# Altium footprint library Vishay Sprague Footprints.PcbLib: 143 footprints (part 7 of 9)
Each footprint in its own frame and in the unit in brackets; x right, y up, seen from the top. Pads: shape width x height; smd on the part's side, far side on the other; paste and mask are expansions set on the pad; w line width, h text height; cw(c..) or ccw(c..) is an arc to the next point about the centre after c.
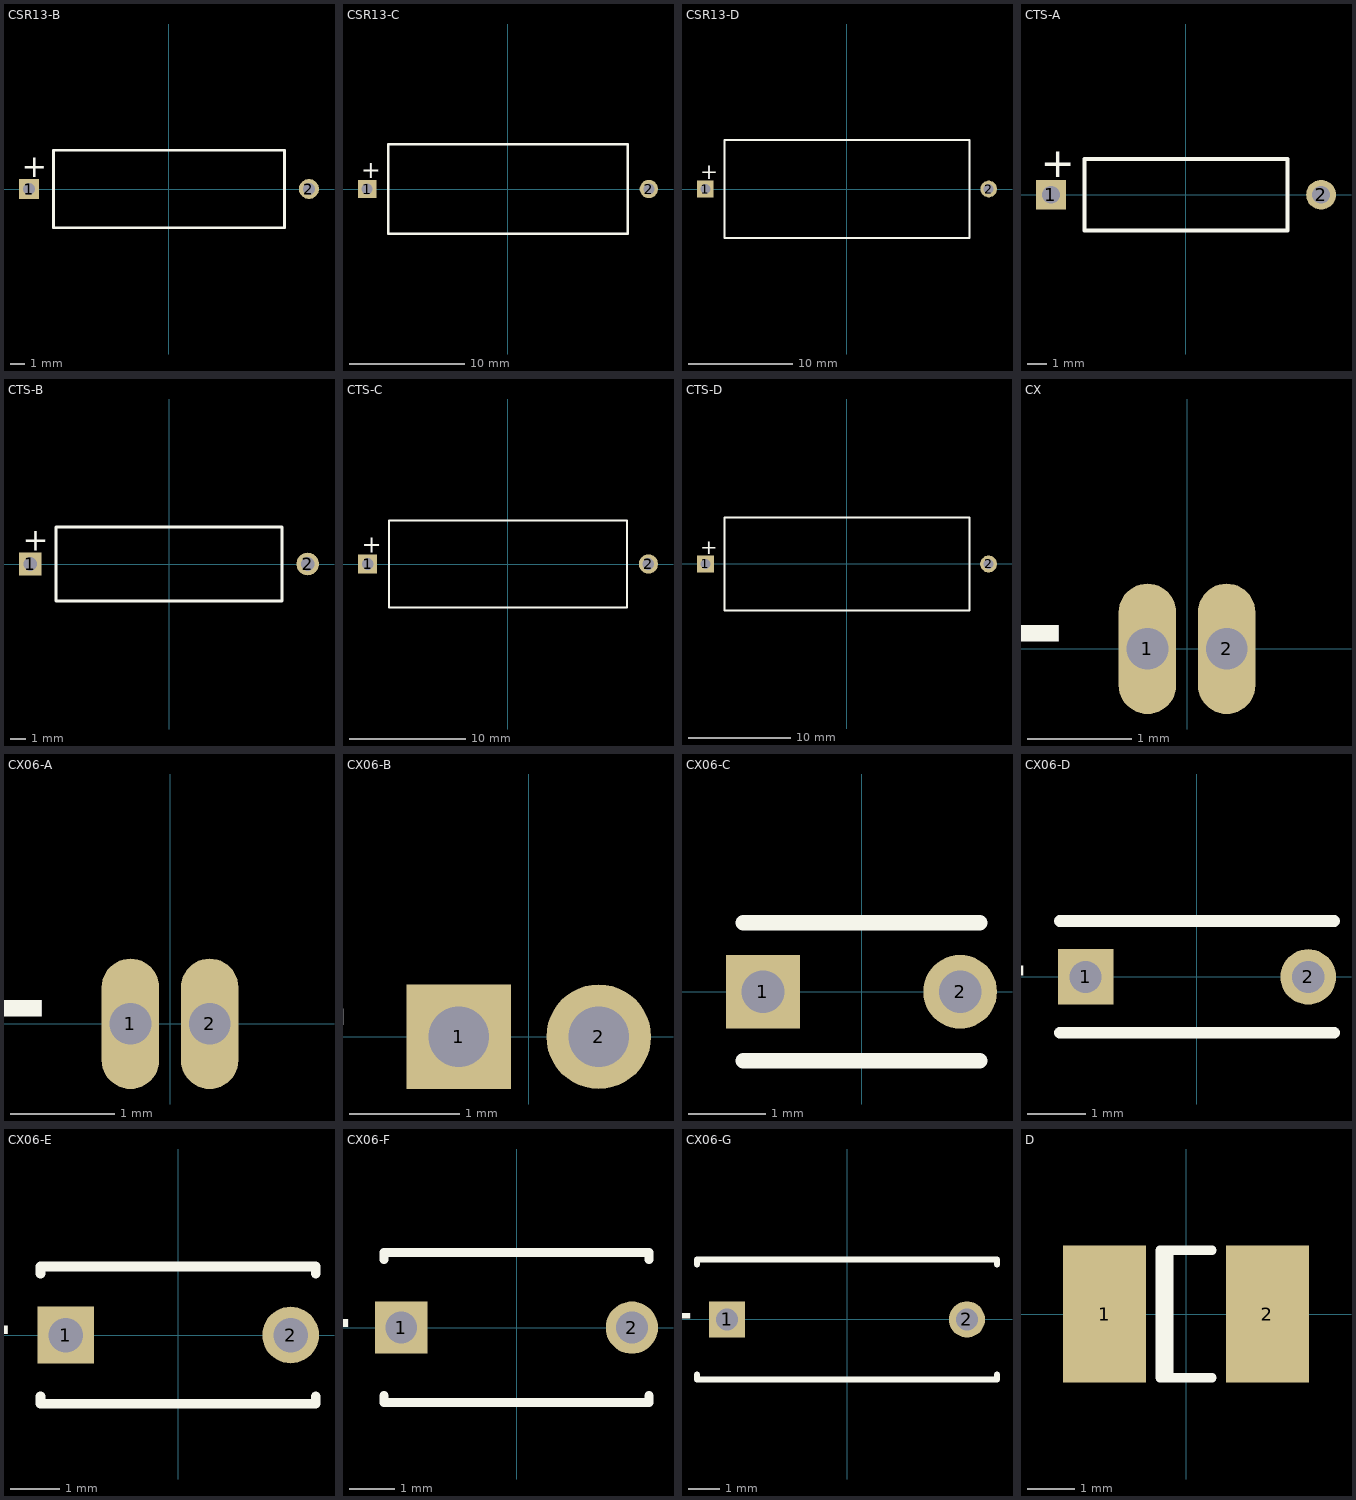
[diagram p6: the footprints below, top view; thin cyan lines are the x and y axes]

## CSR13-B [mm] "Capacitor, Axial, Polarised; Body 12.8 x 5.1 mm (LxDia. max), Lead Dia. 0.51 mm (typ)"
height 5.2
pads (2):
  rect 1.35x1.35 hole 0.8: 1(-9.39,0)
  round 1.35 hole 0.8: 2(9.39,0)
Top Overlay:
  lines w0.2: -7.75,-2.6 -7.75,2.6 7.75,2.6 7.75,-2.6 -7.75,-2.6
  text "+" at -9.89,0.8 h1.5

## CSR13-C [mm] "Capacitor, Axial, Polarised; Body 18.2 x 7.7 mm (LxDia. max), Lead Dia. 0.64 mm (typ)"
height 7.8
pads (2):
  rect 1.6x1.6 hole 0.95: 1(-12.28,0)
  round 1.6 hole 0.95: 2(12.28,0)
Top Overlay:
  lines w0.2: -10.45,-3.9 10.45,-3.9 10.45,3.9 -10.45,3.9 -10.45,-3.9
  text "+" at -12.78,0.925 h1.5

## CSR13-D [mm] "Capacitor, Axial, Polarised; Body 20.8 x 9.3 mm (LxDia. max), Lead Dia. 0.64 mm (typ)"
height 9.4
pads (2):
  rect 1.6x1.6 hole 0.95: 1(-13.58,0)
  round 1.6 hole 0.95: 2(13.58,0)
Top Overlay:
  lines w0.2: -11.75,-4.7 -11.75,4.7 11.75,4.7 11.75,-4.7 -11.75,-4.7
  text "+" at -14.08,0.925 h1.5

## CTS-A [mm] "Capacitor, Axial, Polarised; Body 8.1 x 3.6 mm (LxDia. max), Lead Dia. 0.53 mm (typ)"
height 3.6
pads (2):
  rect 1.5x1.5 hole 0.9: 1(-6.8,0)
  round 1.5 hole 0.9: 2(6.8,0)
Top Overlay:
  lines w0.2: -5.1,-1.8 5.1,-1.8 5.1,1.8 -5.1,1.8 -5.1,-1.8
  text "+" at -7.3,0.875 h1.5

## CTS-B [mm] "Capacitor, Axial, Polarised; Body 12.8 x 4.9 mm (LxDia. max), Lead Dia. 0.53 mm (typ)"
height 4.9
pads (2):
  rect 1.5x1.5 hole 0.9: 1(-9.2,0)
  round 1.5 hole 0.9: 2(9.2,0)
Top Overlay:
  lines w0.2: -7.5,-2.45 -7.5,2.45 7.5,2.45 7.5,-2.45 -7.5,-2.45
  text "+" at -9.7,0.875 h1.5

## CTS-C [mm] "Capacitor, Axial, Polarised; Body 18.2 x 7.5 mm (LxDia. max), Lead Dia. 0.63 mm (typ)"
height 7.5
pads (2):
  rect 1.65x1.65 hole 1: 1(-12.1,0)
  round 1.65 hole 1: 2(12.1,0)
Top Overlay:
  lines w0.2: -10.25,-3.75 10.25,-3.75 10.25,3.75 -10.25,3.75 -10.25,-3.75
  text "+" at -12.6,0.95 h1.5

## CTS-D [mm] "Capacitor, Axial, Polarised; Body 20.8 x 9.1 mm (LxDia. max), Lead Dia. 0.63 mm (typ)"
height 9.1
pads (2):
  rect 1.65x1.65 hole 1: 1(-13.85,0)
  round 1.65 hole 1: 2(13.85,0)
Top Overlay:
  lines w0.2: -12,-4.55 -12,4.55 12,4.55 12,-4.55 -12,-4.55
  text "+" at -14.35,0.95 h1.5

## CX [mm] "Capacitor, Radial, Tantalum; Body 1.27 x 1.02 x 1.91 mm (WxTxH max); Pin Spacing 0.76 mm (typ)"
height 1.91
pads (2):
  oval 0.55x1.25 hole 0.4: 1(-0.38,0) 2(0.38,0)
Top Overlay:
  text "+" at -1.025,0.75 h1.5

## CX06-A [mm] "Capacitor, Radial, Tantalum; Body 1.27 x 1.02 x 2.54 mm (WxTxH max); Pin Spacing 0.76 mm (typ)"
height 2.54
pads (2):
  oval 0.55x1.25 hole 0.4: 1(-0.38,0) 2(0.38,0)
Top Overlay:
  text "+" at -1.025,0.75 h1.5

## CX06-B [mm] "Capacitor, Radial, Tantalum; Body 1.78 x 1.02 x 3.18 mm (WxTxH max); Pin Spacing 1.27 mm (typ)"
height 3.18
pads (2):
  rect 0.95x0.95 hole 0.55: 1(-0.635,0)
  round 0.95 hole 0.55: 2(0.635,0)
Top Overlay:
  text "+" at -1.488,0.75 h1.5

## CX06-C [mm] "Capacitor, Radial, Tantalum; Body 3.05 x 1.78 x 4.19 mm (WxTxH max); Pin Spacing 2.54 mm (typ)"
height 4.19
pads (2):
  rect 0.95x0.95 hole 0.55: 1(-1.27,0)
  round 0.95 hole 0.55: 2(1.27,0)
Top Overlay:
  lines w0.2: -1.525,-0.89 1.525,-0.89 ; -1.525,0.89 1.525,0.89
  text "+" at -2.12,0.75 h1.5

## CX06-D [mm] "Capacitor, Radial, Tantalum; Body 4.70 x 1.91 x 5.72 mm (WxTxH max); Pin Spacing 3.81 mm (typ)"
height 5.72
pads (2):
  rect 0.95x0.95 hole 0.55: 1(-1.905,0)
  round 0.95 hole 0.55: 2(1.905,0)
Top Overlay:
  lines w0.2: -2.35,-0.955 2.35,-0.955 ; -2.35,0.955 2.35,0.955
  text "+" at -2.755,0.75 h1.5

## CX06-E [mm] "Capacitor, Radial, Tantalum; Body 5.59 x 2.79 x 7.37 mm (WxTxH max); Pin Spacing 4.57 mm (typ)"
height 7.37
pads (2):
  rect 1.15x1.15 hole 0.7: 1(-2.285,0)
  round 1.15 hole 0.7: 2(2.285,0)
Top Overlay:
  lines w0.2: -2.795,-1.245 -2.795,-1.395 2.795,-1.395 2.795,-1.245 ; -2.795,1.245 -2.795,1.395 2.795,1.395 2.795,1.245
  text "+" at -3.235,0.75 h1.5

## CX06-F [mm] "Capacitor, Radial, Tantalum; Body 5.84 x 3.30 x 7.87 mm (WxTxH max); Pin Spacing 5.08 mm (typ)"
height 7.87
pads (2):
  rect 1.15x1.15 hole 0.7: 1(-2.54,0)
  round 1.15 hole 0.7: 2(2.54,0)
Top Overlay:
  lines w0.2: -2.92,-1.5 -2.92,-1.65 2.92,-1.65 2.92,-1.5 ; -2.92,1.5 -2.92,1.65 2.92,1.65 2.92,1.5
  text "+" at -3.49,0.75 h1.5

## CX06-G [mm] "Capacitor, Radial, Tantalum; Body 9.53 x 3.81 x 12.07 mm (WxTxH max); Pin Spacing 7.62 mm (typ)"
height 12.07
pads (2):
  rect 1.15x1.15 hole 0.7: 1(-3.81,0)
  round 1.15 hole 0.7: 2(3.81,0)
Top Overlay:
  lines w0.2: -4.765,-1.755 -4.765,-1.905 4.765,-1.905 4.765,-1.755 ; -4.765,1.755 -4.765,1.905 4.765,1.905 4.765,1.755
  text "+" at -4.76,0.75 h1.5

## D [mm] "Chip Capacitor; Body 3.81 x 2.54 mm (LxW typ)"
height 1.66
pads (2):
  rect 1.75x2.9 smd: 1(-1.725,0) 2(1.725,0)
Top Overlay:
  lines w0.2: -0.36,-1.35 -0.36,1.35 ; 0.55,-1.35 -0.55,-1.35 -0.55,1.35 0.55,1.35